# EAGLE library part 256-624/000-005 (library con-wago_256)
Serie 256, Stand: 01.01.2012. Die jeweils aktuellen Daten zu diesem Artikel finden Sie in unserem Produktkatalog, den Sie unter www.wago.com einsehen können. As of: 01/01/2012. Please find the newest data for this article in our product catalogue, which can be viewed under www.wago.com.
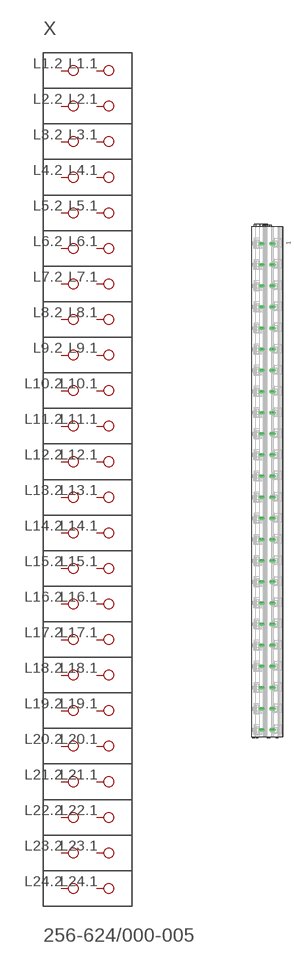
[diagram p136: symbol with the pads of P-256-624; footprint P-256-624]

Designator prefix X

## 256-624/000-005  [P-256-624]
L1.1  P1.1
L1.2  P1.2
L2.1  P2.1
L2.2  P2.2
L3.1  P3.1
L3.2  P3.2
L4.1  P4.1
L4.2  P4.2
L5.1  P5.1
L5.2  P5.2
L6.1  P6.1
L6.2  P6.2
L7.1  P7.1
L7.2  P7.2
L8.1  P8.1
L8.2  P8.2
L9.1  P9.1
L9.2  P9.2
L10.1  P10.1
L10.2  P10.2
L11.1  P11.1
L11.2  P11.2
L12.1  P12.1
L12.2  P12.2
L13.1  P13.1
L13.2  P13.2
L14.1  P14.1
L14.2  P14.2
L15.1  P15.1
L15.2  P15.2
L16.1  P16.1
L16.2  P16.2
L17.1  P17.1
L17.2  P17.2
L18.1  P18.1
L18.2  P18.2
L19.1  P19.1
L19.2  P19.2
L20.1  P20.1
L20.2  P20.2
L21.1  P21.1
L21.2  P21.2
L22.1  P22.1
L22.2  P22.2
L23.1  P23.1
L23.2  P23.2
L24.1  P24.1
L24.2  P24.2

## Footprint P-256-624 (pad centres in mm)
drill 1.1 long: L1.1 2.485,112.3; L1.2 -2.515,112.3; L2.1 2.485,102.3; L2.2 -2.515,102.3; L3.1 2.485,92.3; L3.2 -2.515,92.3; L4.1 2.485,82.3; L4.2 -2.515,82.3; L5.1 2.485,72.3; L5.2 -2.515,72.3; L6.1 2.485,62.3; L6.2 -2.515,62.3; L7.1 2.485,52.3; L7.2 -2.515,52.3; L8.1 2.485,42.3; L8.2 -2.515,42.3; L9.1 2.485,32.3; L9.2 -2.515,32.3; L10.1 2.485,22.3; L10.2 -2.515,22.3; L11.1 2.485,12.3; L11.2 -2.515,12.3; L12.1 2.485,2.3; L12.2 -2.515,2.3; L13.1 2.485,-7.7; L13.2 -2.515,-7.7; L14.1 2.485,-17.7; L14.2 -2.515,-17.7; L15.1 2.485,-27.7; L15.2 -2.515,-27.7; L16.1 2.485,-37.7; L16.2 -2.515,-37.7; L17.1 2.485,-47.7; L17.2 -2.515,-47.7; L18.1 2.485,-57.7; L18.2 -2.515,-57.7; L19.1 2.485,-67.7; L19.2 -2.515,-67.7; L20.1 2.485,-77.7; L20.2 -2.515,-77.7; L21.1 2.485,-87.7; L21.2 -2.515,-87.7; L22.1 2.485,-97.7; L22.2 -2.515,-97.7; L23.1 2.485,-107.7; L23.2 -2.515,-107.7; L24.1 2.485,-117.7; L24.2 -2.515,-117.7